# Altium footprint library Crystal 5032.PcbLib: 1 footprints
Each footprint in its own frame and in the unit in brackets; x right, y up, seen from the top. Pads: shape width x height; smd on the part's side, far side on the other; paste and mask are expansions set on the pad; w line width, h text height; cw(c..) or ccw(c..) is an arc to the next point about the centre after c.
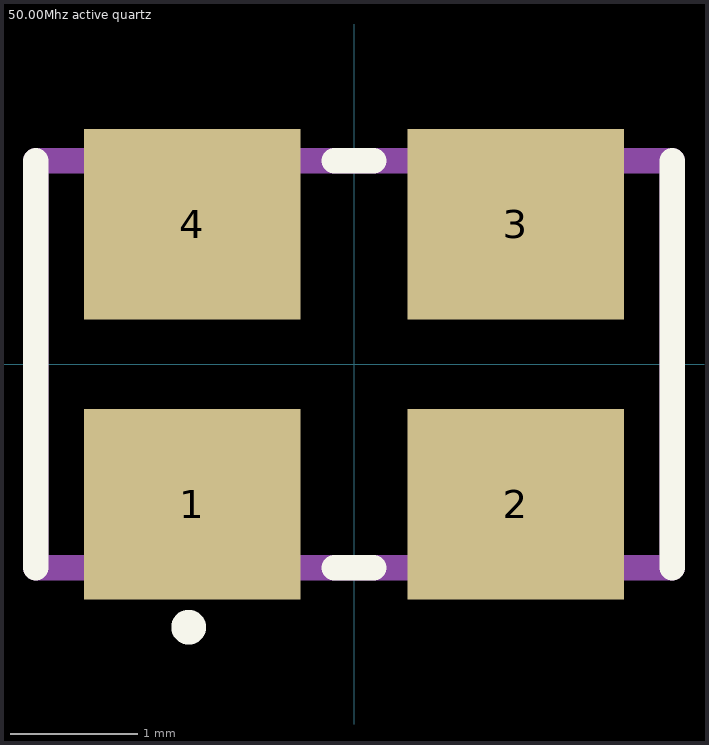
[diagram p0: the footprint, top view; thin cyan lines are the x and y axes]

## 50.00Mhz active quartz [mm] "50.00Mhz active quartz"
pads (4):
  rect 1.7x1.5 smd: 1(-1.27,-1.1) 2(1.27,-1.1) 3(1.27,1.1) 4(-1.27,1.1)
Top Overlay:
  circle w0.2: c-1.299,-2.066 r0.037
  lines w0.2: -2.5,-1.6 -2.5,1.6 ; -0.154,-1.6 0.154,-1.6 ; -0.154,1.6 0.154,1.6 ; 2.5,-1.6 2.5,1.6
Mechanical 13:
  lines w0.2: -2.5,-1.6 2.5,-1.6 2.5,1.6 -2.5,1.6 -2.5,-1.6
3D body "ASFL1-50.000MHZ-EK-T.stp": height 1.29, standoff -0.01, extent -2.5,-1.6 2.5,1.6